# Altium footprint library TO.PcbLib: 21 footprints (part 1 of 2)
Each footprint in its own frame and in the unit in brackets; x right, y up, seen from the top. Pads: shape width x height; smd on the part's side, far side on the other; paste and mask are expansions set on the pad; w line width, h text height; cw(c..) or ccw(c..) is an arc to the next point about the centre after c.
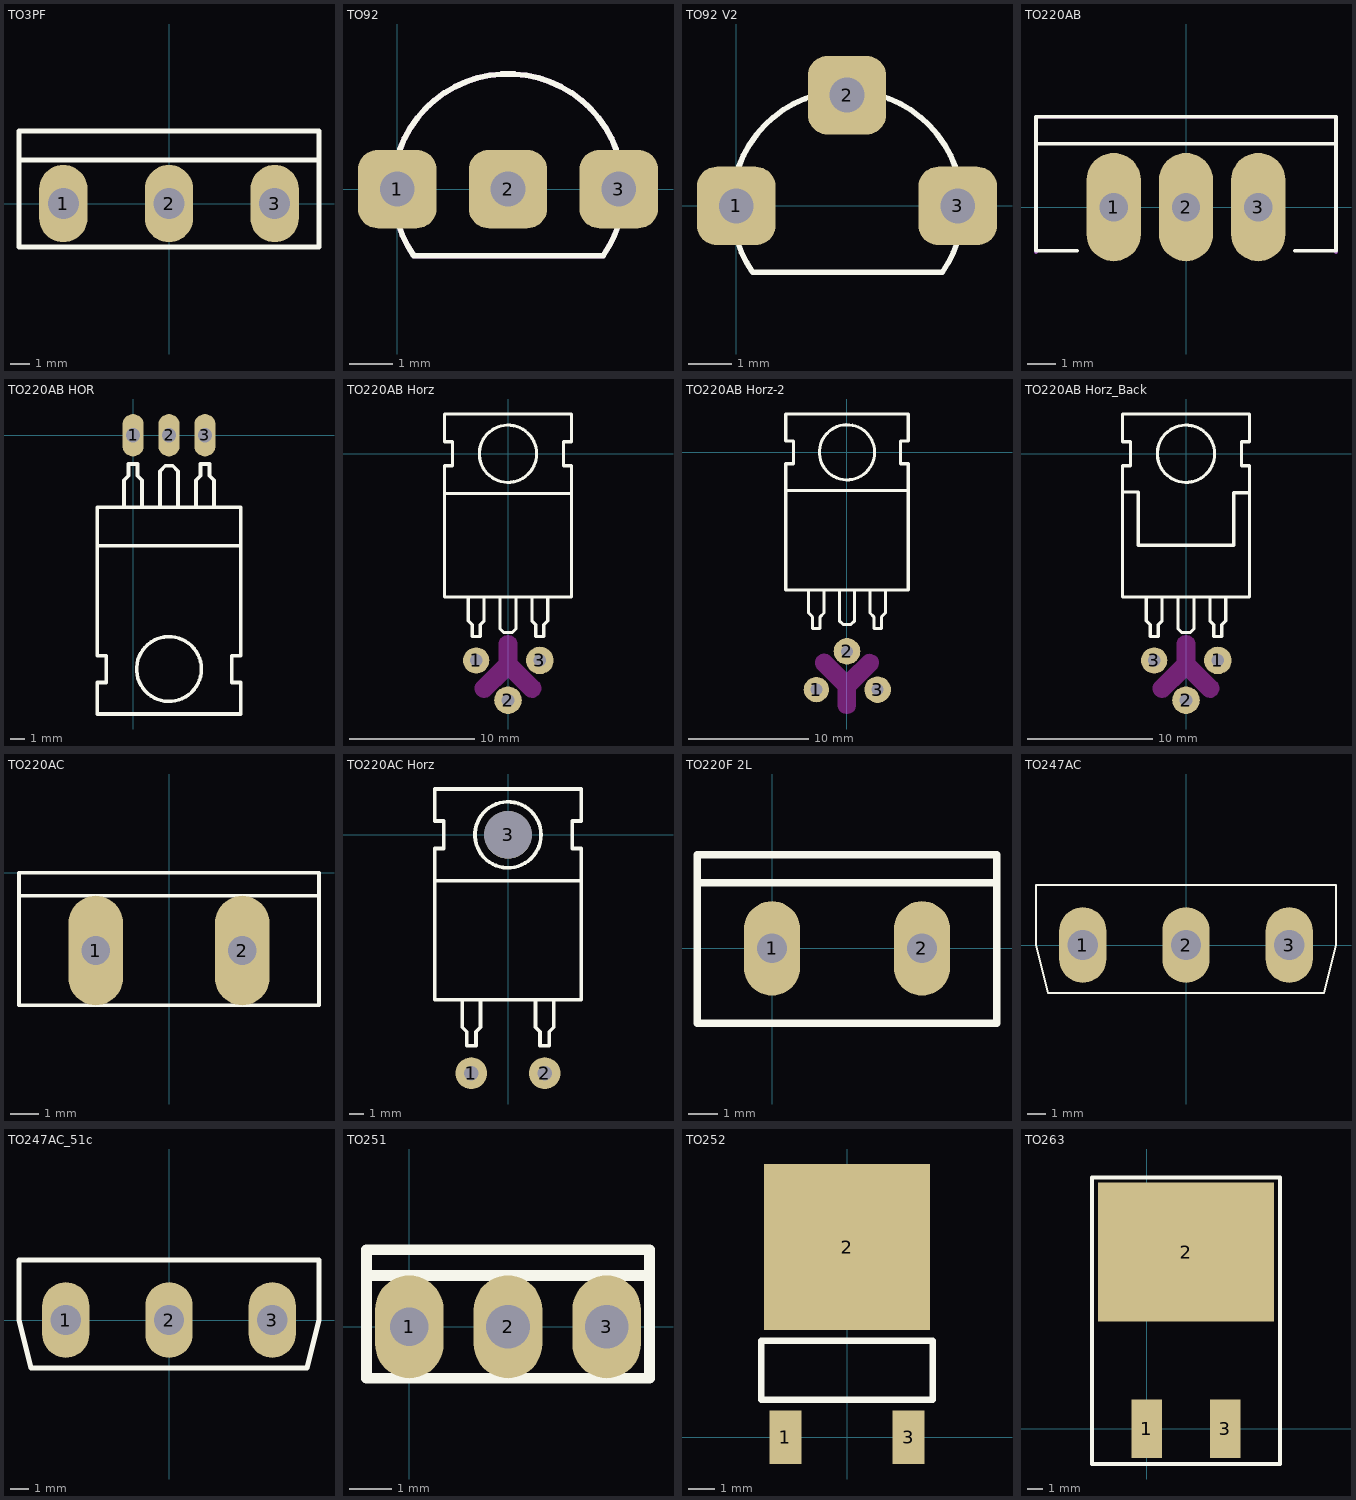
[diagram p0: the footprints below, top view; thin cyan lines are the x and y axes]

## TO3PF [mm]
pads (3):
  oval 2.5x4 hole 1.6: 1(-5.461,0) 2(0,0) 3(5.461,0)
Top Overlay:
  lines w0.254: -7.75,2.25 7.75,2.25 ; -7.75,-2.25 -7.75,3.75 7.75,3.75 7.75,-2.25 -7.75,-2.25

## TO92 [mm]
pads (3):
  rrect50% 1.8x1.8 hole 0.8: 1(0,0) 2(2.54,0) 3(5.08,0)
Top Overlay:
  lines w0.025: 2.515,2.667 2.54,2.667
  lines w0.127: 0.027,-0.817 ccw(c2.54,0) 0.375,-1.516 ; 0.057,0.904 cw(c2.54,0) 5.023,0.904 ; 0.381,-1.524 4.699,-1.524 ; 4.724,-1.524 ccw(c2.54,0) 5.075,-0.819
Mechanical 15:
  lines w0.127: 0.027,-0.817 ccw(c2.54,0) 0.375,-1.516 ; 0.057,0.904 cw(c2.54,0) 5.023,0.904 ; 0.381,-1.524 4.699,-1.524 ; 4.724,-1.524 ccw(c2.54,0) 5.075,-0.819
  text ".Designator" at 1.079,1.46 h1.02
3D body "TO92.STEP": height 8.76, standoff -2.53, extent -0.225,-1.55 5.305,2.55

## TO92 V2 [mm]
pads (3):
  rrect50% 1.8x1.8 hole 0.8: 1(0,0) 2(2.54,2.54) 3(5.08,0)
Top Overlay:
  lines w0.025: 2.515,2.667 2.54,2.667
  lines w0.127: 0.027,-0.817 ccw(c2.54,0) 0.375,-1.516 ; 0.057,0.904 cw(c2.54,0) 5.023,0.904 ; 0.381,-1.524 4.699,-1.524 ; 4.724,-1.524 ccw(c2.54,0) 5.075,-0.819
3D body "TO92_2.step": height 8.51, standoff -2.51, extent -0.247,-1.53 5.327,2.81

## TO220AB [mm]
pads (3):
  oval 1.905x3.81 hole 1: 1(-2.54,0) 2(0,0) 3(2.54,0)
Top Overlay:
  lines w0.127: -5.27,2.222 5.27,2.222 ; -3.826,-1.54 -5.27,-1.54 -5.27,3.175 5.27,3.175 5.27,-1.54 3.826,-1.54
Mechanical 15:
  lines w0.127: 5.271,-1.587 5.271,3.175 -5.271,3.175 ; -5.271,3.175 -5.271,-1.587 -5.271,3.175
3D body "CircuitWorks-TO-220HS.step": height 18.54, standoff -3.81, extent -5.08,-1.397 5.08,3.175

## TO220AB HOR [mm]
pads (3):
  oval 1.5x3 hole 1.016: 1(0,0) 2(2.54,0) 3(5.08,0)
Top Overlay:
  circle w0.254: c2.54,-16.51 r2.286
  lines w0.254: -2.54,-7.81 7.62,-7.81 ; 0.635,-5.08 0.635,-3.175 0.318,-2.857 0.318,-2.032 -0.318,-2.032 -0.318,-2.857 -0.635,-3.175 -0.635,-5.08 0.635,-5.08 ; 0.635,-5.08 1.905,-5.08 ; 1.905,-5.08 1.905,-2.54 2.286,-2.159 2.794,-2.159 3.175,-2.54 3.175,-5.08 ; 1.905,-5.08 3.175,-5.08 ; 3.175,-5.08 4.445,-5.08 ; 4.445,-5.08 4.445,-3.175 4.763,-2.857 4.763,-2.032 5.397,-2.032 5.397,-2.857 5.715,-3.175 5.715,-5.08 4.445,-5.08 ; -2.54,-19.685 7.62,-19.685 7.62,-17.462 6.985,-17.462 6.985,-15.557 7.62,-15.557 7.62,-5.08 -2.54,-5.08 -2.54,-15.557 -1.905,-15.557 -1.905,-17.462 -2.54,-17.462 -2.54,-19.685
3D body: height 6, standoff 3, extent -2.539,-7.81 7.619,-5.081
3D body: height 6, standoff 5, extent -2.539,-19.684 7.619,-7.811

## TO220AB Horz [mm]
pads (3):
  round 2.1 hole 1: 1(-2.54,-16.51)
  round 2.2 hole 1: 2(0,-19.685) 3(2.54,-16.51)
Top Overlay:
  circle w0.254: c0,0 r2.286
  lines w0.254: -5.08,-3.175 5.08,-3.175 ; -3.175,-11.43 -3.175,-13.335 -2.857,-13.652 -2.857,-14.605 -2.222,-14.605 -2.222,-13.652 -1.905,-13.335 -1.905,-11.43 ; -0.635,-11.43 -0.635,-13.97 -0.318,-14.287 0.318,-14.287 0.635,-13.97 0.635,-11.43 ; 1.905,-11.43 1.905,-13.335 2.222,-13.652 2.222,-14.605 2.857,-14.605 2.857,-13.652 3.175,-13.335 3.175,-11.43 ; -5.08,-11.43 -5.08,-0.953 -4.445,-0.953 -4.445,0.953 -5.08,0.953 -5.08,3.175 5.08,3.175 5.08,0.953 4.445,0.953 4.445,-0.953 5.08,-0.953 5.08,-11.43 -5.08,-11.43
Keep-Out Layer:
  board cut-out: -2.436,-18.202 -2.505,-18.272 -2.604,-18.443 -2.655,-18.634 -2.655,-18.831 -2.604,-19.022 -2.505,-19.193 -2.366,-19.333 -2.195,-19.432 -2.004,-19.483 -1.806,-19.483 -1.615,-19.432 -1.444,-19.333 -1.374,-19.263 0,-17.889 1.374,-19.263 1.453,-19.342 1.649,-19.447 1.868,-19.49 2.089,-19.468 2.295,-19.383 2.467,-19.242 2.591,-19.057 2.655,-18.844 2.655,-18.732 2.655,-18.659 2.627,-18.514 2.57,-18.377 2.488,-18.254 2.436,-18.202 0.75,-16.517 0.75,-15.24 0.75,-15.141 0.699,-14.95 0.6,-14.779 0.461,-14.64 0.29,-14.541 0.099,-14.49 -0.099,-14.49 -0.29,-14.541 -0.461,-14.64 -0.6,-14.779 -0.699,-14.95 -0.75,-15.141 -0.75,-15.24 -0.75,-16.517
3D body "TO220_HOR_TOP.STEP": height 6.19, standoff -5.5, extent -5.625,-20.051 5.588,2.779

## TO220AB Horz-2 [mm]
pads (3):
  round 2.1 hole 1: 1(-2.528,-19.685)
  round 2.2 hole 1: 2(0.012,-16.51) 3(2.552,-19.685)
Top Overlay:
  circle w0.254: c0.012,0 r2.286
  lines w0.254: -5.068,-3.175 5.092,-3.175 ; -3.163,-11.43 -3.163,-13.335 -2.846,-13.652 -2.846,-14.605 -2.211,-14.605 -2.211,-13.652 -1.893,-13.335 -1.893,-11.43 ; -0.623,-11.43 -0.623,-13.97 -0.306,-14.287 0.329,-14.287 0.647,-13.97 0.647,-11.43 ; 1.917,-11.43 1.917,-13.335 2.234,-13.652 2.234,-14.605 2.869,-14.605 2.869,-13.652 3.187,-13.335 3.187,-11.43 ; -5.068,-11.43 -5.068,-0.953 -4.433,-0.953 -4.433,0.953 -5.068,0.953 -5.068,3.175 5.092,3.175 5.092,0.953 4.457,0.953 4.457,-0.953 5.092,-0.953 5.092,-11.43 -5.068,-11.43
Keep-Out Layer:
  region: -0.519,-18.825 -0.589,-18.895 -0.688,-19.066 -0.739,-19.257 -0.739,-19.455 -0.688,-19.646 -0.589,-19.817 -0.449,-19.956 -0.278,-20.055 -0.087,-20.106 0.11,-20.106 0.301,-20.055 0.472,-19.956 0.542,-19.886 2.429,-18 2.481,-17.948 2.563,-17.825 2.62,-17.688 2.649,-17.543 2.649,-17.469 2.649,-17.358 2.584,-17.145 2.46,-16.96 2.288,-16.819 2.083,-16.733 1.861,-16.712 1.643,-16.755 1.446,-16.86 1.368,-16.939
  region: -0.75,-20.955 -0.75,-19.667 -2.421,-17.996 -2.49,-17.927 -2.589,-17.755 -2.64,-17.565 -2.64,-17.367 -2.589,-17.176 -2.49,-17.005 -2.351,-16.865 -2.18,-16.767 -1.989,-16.715 -1.791,-16.715 -1.6,-16.767 -1.429,-16.865 -1.359,-16.935 0.006,-18.3 1.368,-16.939 1.446,-16.86 1.643,-16.755 1.861,-16.712 2.083,-16.733 2.288,-16.819 2.46,-16.96 2.584,-17.145 2.649,-17.358 2.649,-17.469 2.649,-17.543 2.62,-17.688 2.563,-17.825 2.481,-17.948 2.429,-18 0.75,-19.678 0.75,-20.955 0.75,-21.054 0.699,-21.245 0.6,-21.416 0.461,-21.555 0.29,-21.654 0.099,-21.705 -0.099,-21.705 -0.29,-21.654 -0.461,-21.555 -0.6,-21.416 -0.699,-21.245 -0.75,-21.054
  lines w1.5: 0,-19.356 0.012,-19.356
3D body "TO220AB_2.step": height 6.79, standoff -3.2, extent -5.595,-19.96 5.618,2.87

## TO220AB Horz_Back [mm]
pads (3):
  round 2.2 hole 1: 1(2.54,-16.51) 2(0,-19.685)
  round 2.1 hole 1: 3(-2.54,-16.51)
Top Overlay:
  circle w0.254: c0,0 r2.286
  lines w0.254: -5.08,-3.048 -3.81,-3.048 -3.81,-7.302 3.81,-7.302 3.81,-3.111 5.016,-3.111 5.08,-3.175 ; -3.175,-11.43 -3.175,-13.335 -2.857,-13.652 -2.857,-14.605 -2.222,-14.605 -2.222,-13.652 -1.905,-13.335 -1.905,-11.43 ; -0.635,-11.43 -0.635,-13.97 -0.318,-14.287 0.318,-14.287 0.635,-13.97 0.635,-11.43 ; 1.905,-11.43 1.905,-13.335 2.222,-13.652 2.222,-14.605 2.857,-14.605 2.857,-13.652 3.175,-13.335 3.175,-11.43 ; -5.08,-11.43 5.08,-11.43 5.08,-0.953 4.445,-0.953 4.445,0.953 5.08,0.953 5.08,3.175 -5.08,3.175 -5.08,0.953 -4.445,0.953 -4.445,-0.953 -5.08,-0.953 -5.08,-11.43
Keep-Out Layer:
  board cut-out: -2.436,-18.202 -2.505,-18.272 -2.604,-18.443 -2.655,-18.634 -2.655,-18.831 -2.604,-19.022 -2.505,-19.193 -2.366,-19.333 -2.195,-19.432 -2.004,-19.483 -1.806,-19.483 -1.615,-19.432 -1.444,-19.333 -1.374,-19.263 0,-17.889 1.374,-19.263 1.453,-19.342 1.649,-19.447 1.868,-19.49 2.089,-19.468 2.295,-19.383 2.467,-19.242 2.591,-19.057 2.655,-18.844 2.655,-18.732 2.655,-18.659 2.627,-18.514 2.57,-18.377 2.488,-18.254 2.436,-18.202 0.75,-16.517 0.75,-15.24 0.75,-15.141 0.699,-14.95 0.6,-14.779 0.461,-14.64 0.29,-14.541 0.099,-14.49 -0.099,-14.49 -0.29,-14.541 -0.461,-14.64 -0.6,-14.779 -0.699,-14.95 -0.75,-15.141 -0.75,-15.24 -0.75,-16.517
3D body "TO220_HOR_TOP.STEP": height 6.19, standoff -5.5, extent -5.625,-20.051 5.588,2.779

## TO220AC [mm]
pads (2):
  oval 1.9x3.8 hole 1: 1(-2.54,-2.7) 2(2.54,-2.7)
Top Overlay:
  lines w0.127: -5.2,-0.8 5.2,-0.8 ; -5.2,-4.6 -5.2,0 5.2,0 5.2,-4.6 -5.2,-4.6
3D body "TO220AC.STEP": height 25.73, standoff -3.6, extent -5.606,-4.195 5.607,0.495

## TO220AC Horz [mm]
pads (3):
  round 2.2 hole 1: 1(-2.54,-16.51) 2(2.54,-16.51)
  round 3.3 hole 3.3 unplated: 3(0,0)
Top Overlay:
  circle w0.254: c0,0 r2.286
  lines w0.254: -5.08,-3.175 5.08,-3.175 ; -3.175,-11.43 -3.175,-13.335 -2.857,-13.652 -2.857,-14.605 -2.222,-14.605 -2.222,-13.652 -1.905,-13.335 -1.905,-11.43 ; 1.905,-11.43 1.905,-13.335 2.222,-13.652 2.222,-14.605 2.857,-14.605 2.857,-13.652 3.175,-13.335 3.175,-11.43 ; -5.08,-11.43 5.08,-11.43 5.08,-0.953 4.445,-0.953 4.445,0.953 5.08,0.953 5.08,3.175 -5.08,3.175 -5.08,0.953 -4.445,0.953 -4.445,-0.953 -5.08,-0.953 -5.08,-11.43
3D body "TO220AC_2.STEP": height 6.79, standoff -3.3, extent -5.607,-16.785 5.607,2.87

## TO220F 2L [mm]
pads (2):
  oval 1.9x3.2 hole 1: 1(0,0) 2(5.08,0)
Top Overlay:
  lines w0.254: -2.54,2.222 7.62,2.222 ; -2.54,-2.54 -2.54,3.175 7.62,3.175 7.62,-2.54 -2.54,-2.54

## TO247AC [mm]
pads (3):
  oval 2.5x4 hole 1.6: 1(-5.461,0) 2(0,0) 3(5.461,0)
Top Overlay:
  lines w0.127: -7.938,0 -7.938,3.175 7.938,3.175 7.938,0 7.302,-2.54 -7.302,-2.54 -7.938,0
3D body "TO247.step": height 27.15, standoff -12.1, extent -7.876,-2.483 7.874,2.667

## TO247AC_51c [mm]
pads (3):
  oval 2.5x4 hole 1.6: 1(-5.461,0) 2(0,0) 3(5.461,0)
Top Overlay:
  lines w0.254: -7.938,0 -7.938,3.175 7.938,3.175 7.938,0 7.302,-2.54 -7.302,-2.54 -7.938,0
3D body "TO 247.stp": height 20.05, standoff -3.6, extent -7.875,-0.318 7.875,19.67

## TO251 [mm]
pads (3):
  oval 1.6x2.4 hole 0.9: 1(0,0)
  oval 1.6x2.4 hole 1.016: 2(2.3,0) 3(4.6,0)
Top Overlay:
  lines w0.254: -1,1.2 5.6,1.2 ; -1,-1.2 5.6,-1.2 5.6,1.8 -1,1.8 -1,-1.2
3D body: height 7, standoff 1.2, extent -0.999,-1.199 5.599,1.199
3D body: height 10, standoff 1.2, extent -0.999,1.201 5.599,1.799

## TO252 [mm]
pads (3):
  rect 1.2x2 smd: 1(-2.3,0) 3(2.3,0)
  rect 6.2x6.2 smd: 2(0,7.1)
Top Overlay:
  lines w0.254: -3.2,1.4 3.2,1.4 3.2,3.6 -3.2,3.6 -3.2,1.4
3D body "TO252.step": height 2.41, standoff 0, extent -3.27,-0.35 3.27,9.588

## TO263 [mm]
pads (3):
  rect 2x3.8 smd: 1(0,0) 3(5.08,0)
  rect 11.4x9 smd: 2(2.54,11.43)
Top Overlay:
  lines w0.254: -3.556,-2.286 8.636,-2.286 8.636,16.256 -3.556,16.256 -3.556,-2.286
3D body "TO263.step": height 4.92, standoff -0.09, extent -2.54,-0.653 7.62,14.611